# EAGLE library part NUCLEO64(MB1136) (library nucleo)
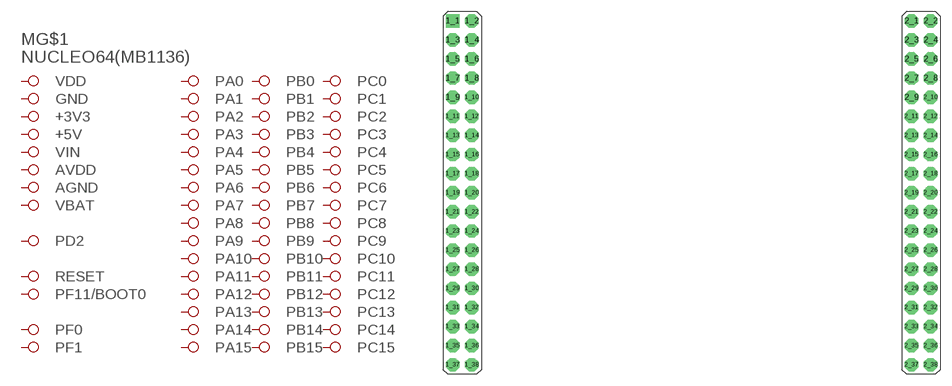
[diagram p1: symbol with the pads of NUCLEO64; footprint NUCLEO64]

Designator prefix M; gates G$1=NUCLEO64_POWER G$2=NUCLEO64_SPECIAL G$3=NUCLEO64_GPIOA G$4=NUCLEO64_GPIOB G$5=NUCLEO64_GPIOC G$6=NUCLEO64_GPIOD G$7=NUCLEO64_GPIOF

## NUCLEO64(MB1136)  [NUCLEO64]
1_1  G$5:PC10  pas
1_2  G$5:PC11  pas
1_3  G$5:PC12  pas
1_4  G$6:PD2  pas
1_5  G$1:VDD  pas
1_7  G$2:PF11/BOOT0  pas
1_8  G$1:GND  pas
1_12  G$1:+3V3  pas
1_13  G$3:PA13  pas
1_14  G$2:RESET  pas
1_15  G$3:PA14  pas
1_16  G$1:+3V3  pas
1_17  G$3:PA15  pas
1_18  G$1:+5V  pas
1_19  G$1:GND  pas
1_20  G$1:GND  pas
1_21  G$4:PB7  pas
1_22  G$1:GND  pas
1_23  G$5:PC13  pas
1_24  G$1:VIN  pas
1_25  G$5:PC14  pas
1_27  G$5:PC15  pas
1_28  G$3:PA0  pas
1_29  G$7:PF0  pas
1_30  G$3:PA1  pas
1_31  G$7:PF1  pas
1_32  G$3:PA4  pas
1_33  G$1:VBAT  pas
1_34  G$4:PB0  pas
1_35  G$5:PC2  pas
1_36  G$5:PC1  pas
1_37  G$5:PC3  pas
1_38  G$5:PC0  pas
2_1  G$5:PC9  pas
2_2  G$5:PC8  pas
2_3  G$4:PB8  pas
2_4  G$5:PC6  pas
2_5  G$4:PB9  pas
2_6  G$5:PC5  pas
2_7  G$1:AVDD  pas
2_9  G$1:GND  pas
2_11  G$3:PA5  pas
2_12  G$3:PA12  pas
2_13  G$3:PA6  pas
2_14  G$3:PA11  pas
2_15  G$3:PA7  pas
2_16  G$4:PB12  pas
2_17  G$4:PB6  pas
2_18  G$4:PB11  pas
2_19  G$5:PC7  pas
2_20  G$1:GND  pas
2_21  G$3:PA9  pas
2_22  G$4:PB2  pas
2_23  G$3:PA8  pas
2_24  G$4:PB1  pas
2_25  G$4:PB10  pas
2_26  G$4:PB15  pas
2_27  G$4:PB4  pas
2_28  G$4:PB14  pas
2_29  G$4:PB5  pas
2_30  G$4:PB13  pas
2_31  G$4:PB3  pas
2_32  G$1:AGND  pas
2_33  G$3:PA10  pas
2_34  G$5:PC4  pas
2_35  G$3:PA2  pas
2_37  G$3:PA3  pas

## Footprint NUCLEO64 (pad centres in mm)
drill 1.016 pad 1.778 square: 1_1 0,45.72
drill 1.016 pad 1.778 octagon: 1_2 2.54,45.72; 1_3 0,43.18; 1_4 2.54,43.18; 1_5 0,40.64; 1_6 2.54,40.64; 1_7 0,38.1; 1_8 2.54,38.1; 1_9 0,35.56; 1_10 2.54,35.56; 1_11 0,33.02; 1_12 2.54,33.02; 1_13 0,30.48; 1_14 2.54,30.48; 1_15 0,27.94; 1_16 2.54,27.94; 1_17 0,25.4; 1_18 2.54,25.4; 1_19 0,22.86; 1_20 2.54,22.86; 1_21 0,20.32; 1_22 2.54,20.32; 1_23 0,17.78; 1_24 2.54,17.78; 1_25 0,15.24; 1_26 2.54,15.24; 1_27 0,12.7; 1_28 2.54,12.7; 1_29 0,10.16; 1_30 2.54,10.16; 1_31 0,7.62; 1_32 2.54,7.62; 1_33 0,5.08; 1_34 2.54,5.08; 1_35 0,2.54; 1_36 2.54,2.54; 1_37 0,0; 1_38 2.54,0; 2_1 60.96,45.72; 2_2 63.5,45.72; 2_3 60.96,43.18; 2_4 63.5,43.18; 2_5 60.96,40.64; 2_6 63.5,40.64; 2_7 60.96,38.1; 2_8 63.5,38.1; 2_9 60.96,35.56; 2_10 63.5,35.56; 2_11 60.96,33.02; 2_12 63.5,33.02; 2_13 60.96,30.48; 2_14 63.5,30.48; 2_15 60.96,27.94; 2_16 63.5,27.94; 2_17 60.96,25.4; 2_18 63.5,25.4; 2_19 60.96,22.86; 2_20 63.5,22.86; 2_21 60.96,20.32; 2_22 63.5,20.32; 2_23 60.96,17.78; 2_24 63.5,17.78; 2_25 60.96,15.24; 2_26 63.5,15.24; 2_27 60.96,12.7; 2_28 63.5,12.7; 2_29 60.96,10.16; 2_30 63.5,10.16; 2_31 60.96,7.62; 2_32 63.5,7.62; 2_33 60.96,5.08; 2_34 63.5,5.08; 2_35 60.96,2.54; 2_36 63.5,2.54; 2_37 60.96,0; 2_38 63.5,0